# EAGLE library part 2SMPP-02 (library LinnesLab-Sensors)
Check prices <https://pricing.snapeda.com/parts/2SMPP-02/Omron/view-part?ref=eda>
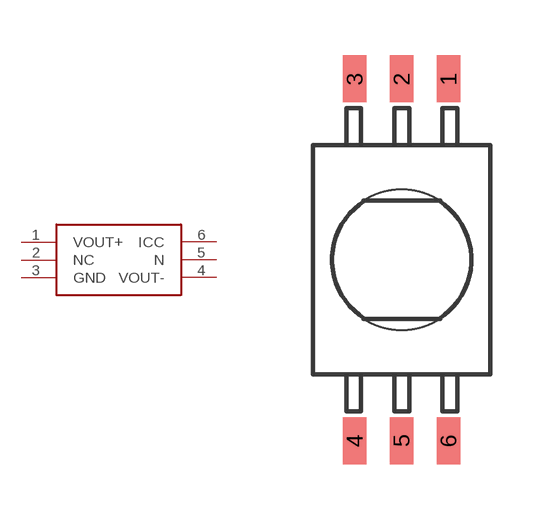
[diagram p35: symbol with the pads of 2SMPP_PAC; footprint 2SMPP_PAC]

Designator prefix -

## 2SMPP-02 (AVAILABILITY: In Stock; DESCRIPTION: Pressure Sensor 5.37PSI (37kPa) Vented Gauge Male - 0.1 (2.59mm) Tube 0 mV ~ 31 mV 6-SMD Module; MF: Omron; MP: 2SMPP-02; PACKAGE: SMD-6 Omron; PRICE: None)  [2SMPP_PAC]
1  VOUT+
2  NC
3  GND
4  VOUT-
5  N
6  ICC

## Footprint 2SMPP_PAC (pad centres in mm)
smd 0.635 x 1.27: 1 1.27,4.9; 2 0,4.9; 3 -1.27,4.9; 4 -1.27,-4.9; 5 0,-4.9; 6 1.27,-4.9
hole 3.8 at 0,0